# EAGLE library part SW_DIP-10 (library CalvEngIO-Switches)
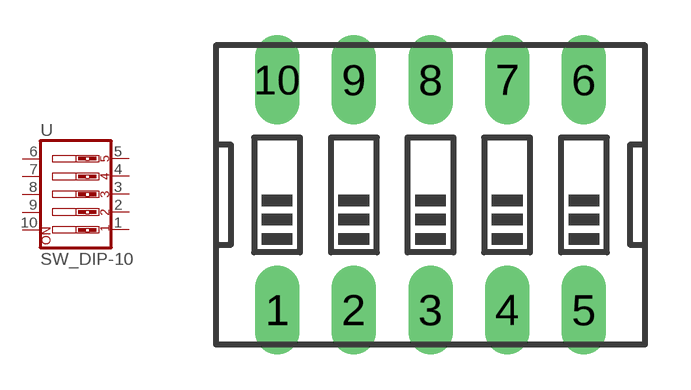
[diagram p1: symbol with the pads of DIPSWITCH-05; footprint DIPSWITCH-05]

Designator prefix -

## SW_DIP-10  [DIPSWITCH-05]
1  1  pas
2  2  pas
3  3  pas
4  4  pas
5  5  pas
6  6  pas
7  7  pas
8  8  pas
9  9  pas
10  10  pas

## Footprint DIPSWITCH-05 (pad centres in mm)
drill 0.97 long: 1 -4.826,-3.556; 2 -2.286,-3.556; 3 0.254,-3.556; 4 2.794,-3.556; 5 5.334,-3.556; 6 5.334,4.064; 7 2.794,4.064; 8 0.254,4.064; 9 -2.286,4.064; 10 -4.826,4.064